# Altium schematic symbol library BC547C.SchLib: 2 symbols
Pins are listed as number, name and electrical type; pins without a type are passive.

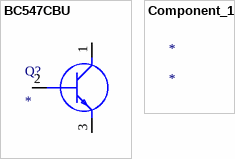
[diagram p0: symbols BC547CBU to Component_1]

## BC547CBU
designator Q?
Transistor BJT NPN; Manufacturer_Name: ON Semiconductor; Manufacturer_Part_Number: BC547CBU; Datasheet Link: https://www.onsemi.com/pdf/datasheet/bc550-d.pdf; Height: 5.33mm
footprint BC547CBU
pins: 1 C, 2 B, 3 E

## Component_1
designator *